# EAGLE library part TPS54526 (library m_vreg)
TPS54526 4.5-V to 18-V Input, 5.5-A Synchronous Step-Down Converter with Eco-mode Features D-CAP2TM Mode Enables Fast Transient Response Low Output Ripple and Allows Ceramic Output Capacitor Wide VIN Input Voltage Range: 4.5 V to 18 V Output Voltage Range: 0.76 V to 5.5 V Highly Efficient Integrated FET’s Optimized for Lower Duty Cycle Applications – 63 mΩ (High Side) and 33 mΩ (Low Side) High Efficiency, less than 10 μA at shutdown High Initial Bandgap Reference Accuracy Adjustable Soft Start Pre-Biased Soft Start 650-kHz Switching Frequency (fSW) Cycle By Cycle Over Current Limit Power Good Output Auto-Skip Eco-modeTM for High Efficiency at Light Load Description The TPS54526 is an adaptive on-time D-CAP2TM mode synchronous buck converter. The TPS54526 enables system designers to complete the suite of various end equipment’s power bus regulators with a cost effective, low component count, low standby current solution. The main control loop for the TPS54526 uses the D-CAP2TM mode control which provides a very fast transient response with no external compensation components. The adaptive on- time control supports seamless transition between PWM mode at higher load conditions and Eco- modeTM operation at light loads. Eco-modeTM allows the TPS54526 to maintain high efficiency during lighter load conditions. The TPS54526 also has a proprietary circuit that enables the device to adopt to both low equivalent series resistance (ESR) output capacitors, such as POSCAP, SP-CAP, and ultra-low ESR ceramic capacitors. The device operates from 4.5-V to 18-V VIN input. The output voltage can be programmed between 0.76V and 5.5V. The device also features an adjustable soft start time and a power good function. The TPS54526 is available in the 14-pin HTSSOP package and the 16 pin QFN package, designed to operate from –40°C to 85°C. Data from TI document SLVSB84C –MAY 2012–REVISED JUNE 2014 Added 2016-09-15 Octopart <https://octopart.com/search?q=TPS54526>
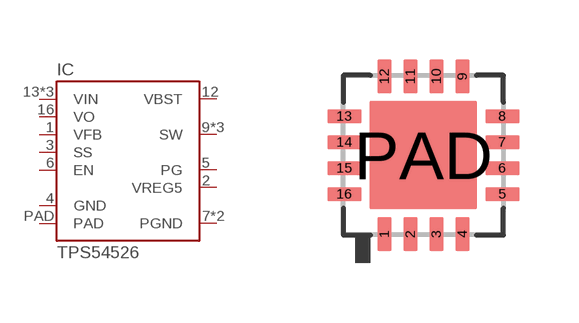
[diagram p11: symbol with the pads of S-PVQFN-N16; footprint S-PVQFN-N16]

Designator prefix IC

## TPS54526RSA (MANUF: TI; PARTNUM: TPS54526RSA; VALUE: TPS54526)  [S-PVQFN-N16]
1  VFB  pas
2  VREG5  pas
3  SS  pas
4  GND  pas
5  PG  pas
6  EN  pas
7  PGND  pas
8  PGND  pas
9  SW  pas
10  SW  pas
11  SW  pas
12  VBST  pas
13  VIN  pas
14  VIN  pas
15  VIN  pas
16  VO  pas
PAD  PAD  pas

## Footprint S-PVQFN-N16 (pad centres in mm)
TI S-PVQFN-N16 Plastic Quad Flatpack No-Lead Package Data from TI drawing 4207807/G 09/15 Suggested soldermask clearance 0.07mm
smd 0.35 x 0.85: 1 -0.975,-1.975; 2 -0.325,-1.975; 3 0.325,-1.975; 4 0.975,-1.975; 9 0.975,1.975; 10 0.325,1.975; 11 -0.325,1.975; 12 -0.975,1.975
smd 0.85 x 0.35: 5 1.975,-0.975; 6 1.975,-0.325; 7 1.975,0.325; 8 1.975,0.975; 13 -1.975,0.975; 14 -1.975,0.325; 15 -1.975,-0.325; 16 -1.975,-0.975
smd 2.7 x 2.7: PAD 0,0